# EAGLE library part RELAY_DPDT (library custom)
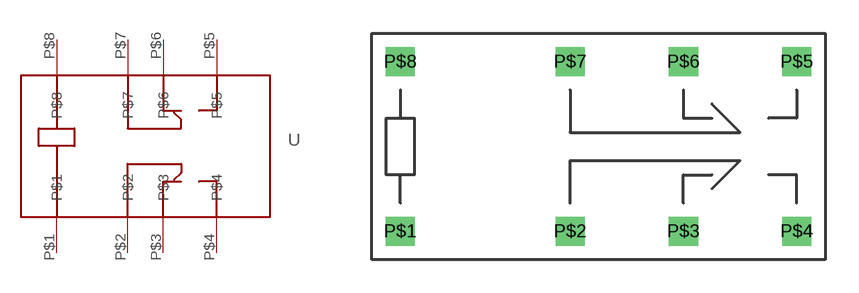
[diagram p28: symbol with the pads of RELAY_DPDT_DIL; footprint RELAY_DPDT_DIL]

Designator prefix -

## RELAY_DPDT  [RELAY_DPDT_DIL]
P$1  P$1
P$2  P$2
P$3  P$3
P$4  P$4
P$5  P$5
P$6  P$6
P$7  P$7
P$8  P$8

## Footprint RELAY_DPDT_DIL (pad centres in mm)
drill 0.8 square: P$1 -8.89,0; P$2 -1.27,0; P$3 3.81,0; P$4 8.89,0; P$5 8.89,7.62; P$6 3.81,7.62; P$7 -1.27,7.62; P$8 -8.89,7.62